# Altium footprint library CGGBPP25P2PAP02.PcbLib: 1 footprints
Each footprint in its own frame and in the unit in brackets; x right, y up, seen from the top. Pads: shape width x height; smd on the part's side, far side on the other; paste and mask are expansions set on the pad; w line width, h text height; cw(c..) or ccw(c..) is an arc to the next point about the centre after c.
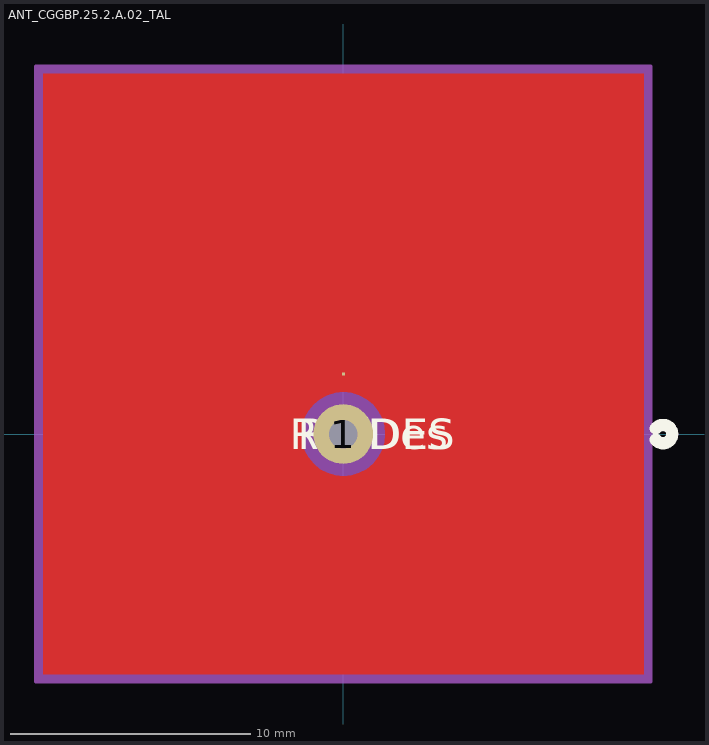
[diagram p0: the footprint, top view; thin cyan lines are the x and y axes]

## ANT_CGGBP.25.2.A.02_TAL [mil]
pads (2):
  round 98 / inner round 60 / far side round 98 hole 47 paste-49 mask+0: 1(0,0)
  rect 5x5 smd paste-2.5 mask-2.5: 2(0,98.43)
Top Layer:
  region: -492,590.43 0,590.43 0,69 -13.46,67.67 -26.41,63.75 -38.33,57.37 -48.79,48.79 -57.37,38.33 -63.75,26.41 -69,0 -67.67,-13.46 -63.75,-26.41 -57.37,-38.33 -48.79,-48.79 -38.33,-57.37 -26.41,-63.75 -13.46,-67.67 0,-69 13.46,-67.67 26.41,-63.75 38.33,-57.37 48.79,-48.79 57.37,-38.33 63.75,-26.41 67.67,-13.46 69,0 67.67,13.46 63.75,26.41 57.37,38.33 48.79,48.79 38.33,57.37 26.41,63.75 13.46,67.67 0,69 0,590.43 492,590.43 492,-393.57 -492,-393.57
Top Overlay:
  lines w20: 512.1,-9.13 ccw(c524,0) 539,0 ccw(c524,0) 512.1,9.13
  text "RefDes" at -75,-25 h50
  text "REFDES" at -87.5,-25 h50
Bottom Overlay:
  circle w20: c524,0 r15
Mechanical 13:
  circle w20: c0,-75 r15
  lines w1: -494,-395.5 494,-395.5 494,592.5 -494,592.5 -494,-395.5
  text "RefDes2" at -87.5,-25 h50
Mechanical 15:
  region: 504,602.5 -504,602.5 -504,-405.5 504,-405.5
  lines w6: -504,-405.5 -504,602.5 504,602.5 504,-405.5 -504,-405.5